# Altium footprint library C655_Main_Board_EK.PcbLib: 44 footprints (part 2 of 3)
Each footprint in its own frame and in the unit in brackets; x right, y up, seen from the top. Pads: shape width x height; smd on the part's side, far side on the other; paste and mask are expansions set on the pad; w line width, h text height; cw(c..) or ccw(c..) is an arc to the next point about the centre after c.
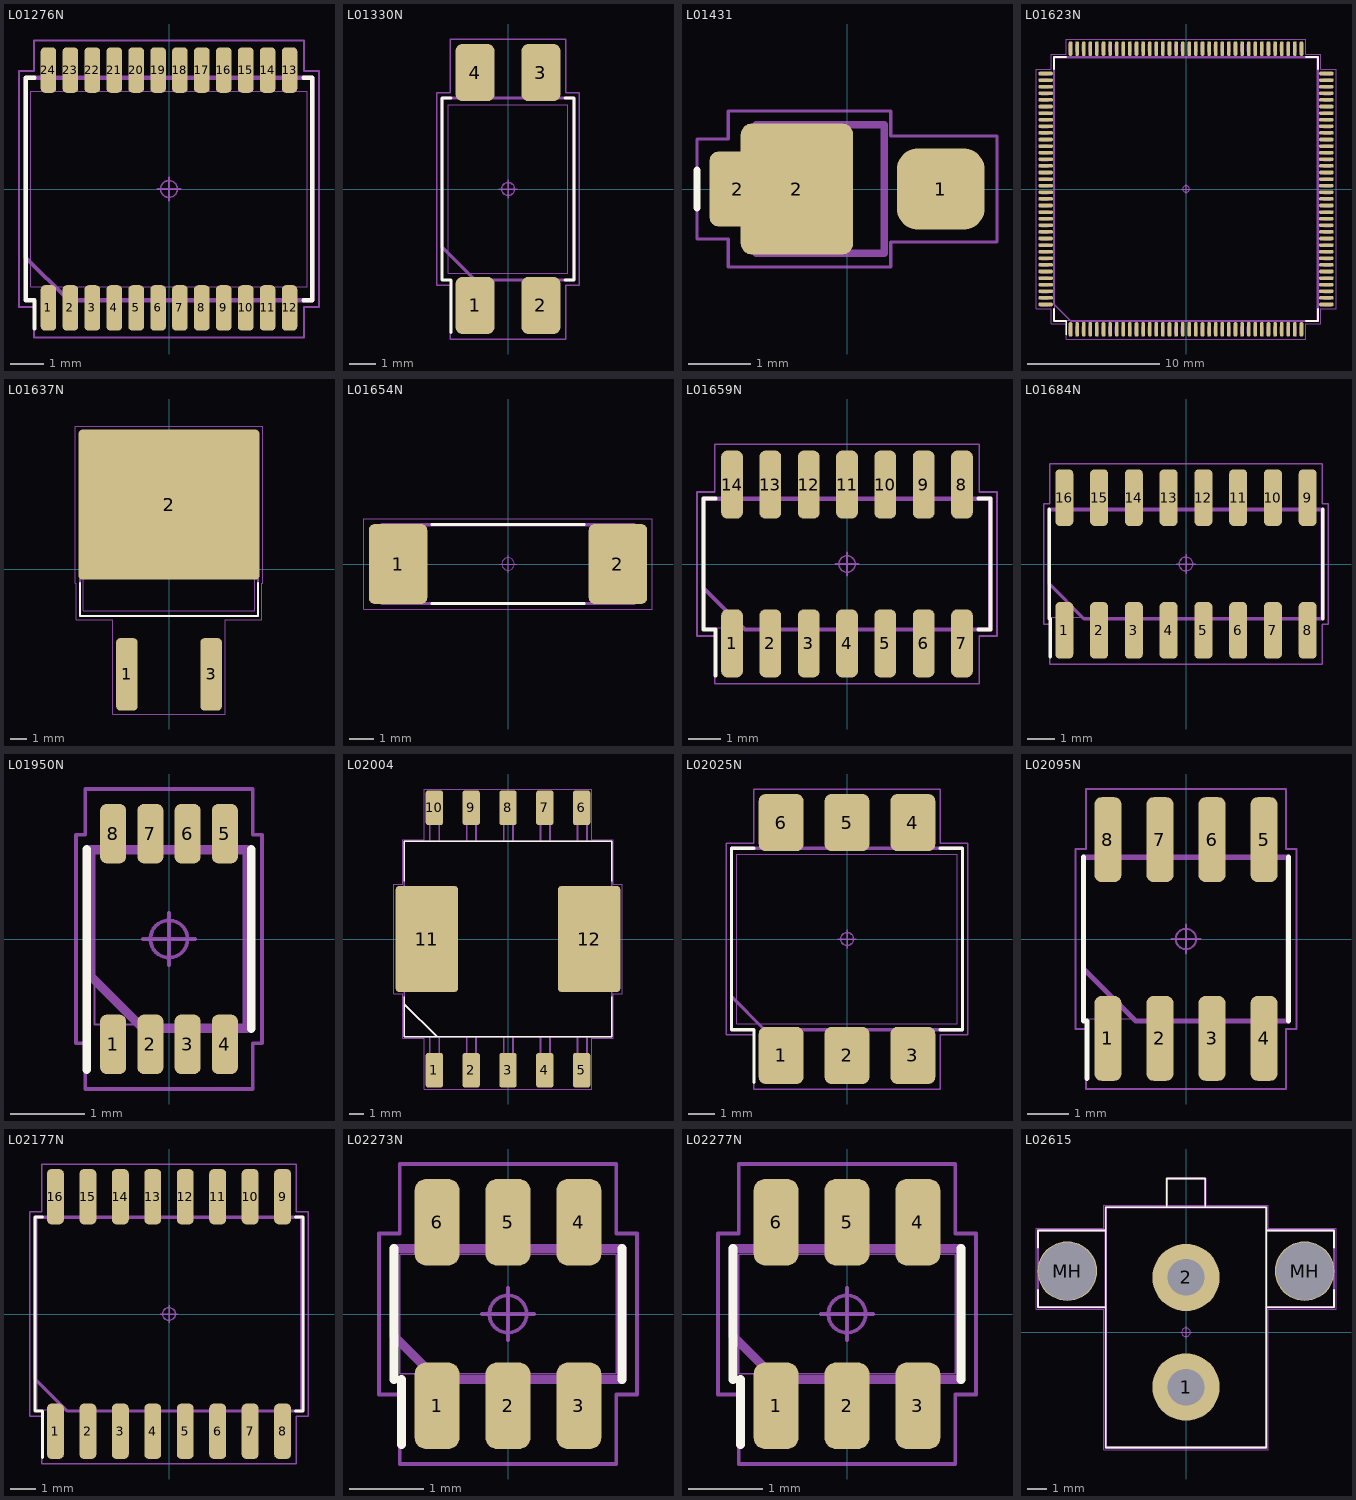
[diagram p1: the footprints below, top view; thin cyan lines are the x and y axes]

## L01276N [mm] "SOP24P65_820X780X200L75X30N"
height 2
pads (24):
  rrect52% 0.46x1.35 smd: 1(-3.575,-3.53) 2(-2.925,-3.53) 3(-2.275,-3.53) 4(-1.625,-3.53) 5(-0.975,-3.53) 6(-0.325,-3.53) 7(0.325,-3.53) 8(0.975,-3.53) 9(1.625,-3.53) 10(2.275,-3.53) 11(2.925,-3.53) 12(3.575,-3.53) 13(3.575,3.53) 14(2.925,3.53) 15(2.275,3.53) 16(1.625,3.53) 17(0.975,3.53) 18(0.325,3.53) 19(-0.325,3.53) 20(-0.975,3.53) 21(-1.625,3.53) 22(-2.275,3.53) 23(-2.925,3.53) 24(-3.575,3.53)
Top Overlay:
  lines w0.12: -3.985,-4.145 -3.985,-3.3 -4.25,-3.3 -4.25,3.3 -3.985,3.3 ; 3.985,-3.3 4.25,-3.3 4.25,3.3 3.985,3.3
Top Assembly:
  lines w0.12: -4.25,-2.03 -2.98,-3.3 4.25,-3.3 4.25,3.3 -4.25,3.3 -4.25,-2.03
  text ".Designator" at -3.429,-0.635 h1.5
Top Courtyard:
  circle w0.05: c0,0 r0.25
  lines w0.05: -0.35,0 0.35,0 ; 0,-0.35 0,0.35 ; -4.45,-3.5 -4.45,3.5 -4.005,3.5 -4.005,4.405 4.005,4.405 4.005,3.5 4.45,3.5 4.45,-3.5 4.005,-3.5 4.005,-4.405 -4.005,-4.405 -4.005,-3.5 -4.45,-3.5
Mechanical 31:
  lines w0.025: -4.1,-2.9 -4.1,2.9 4.1,2.9 4.1,-2.9 -4.1,-2.9 ; -3.725,-3.9 -3.425,-3.9 -3.425,-3.15 -3.725,-3.15 -3.725,-3.9 ; -3.725,3.15 -3.425,3.15 -3.425,3.9 -3.725,3.9 -3.725,3.15 ; -3.075,-3.9 -2.775,-3.9 -2.775,-3.15 -3.075,-3.15 -3.075,-3.9 ; -3.075,3.15 -2.775,3.15 -2.775,3.9 -3.075,3.9 -3.075,3.15 ; -2.425,-3.9 -2.125,-3.9 -2.125,-3.15 -2.425,-3.15 -2.425,-3.9 ; -2.425,3.15 -2.125,3.15 -2.125,3.9 -2.425,3.9 -2.425,3.15 ; -1.775,-3.9 -1.475,-3.9 -1.475,-3.15 -1.775,-3.15 -1.775,-3.9 ; -1.775,3.15 -1.475,3.15 -1.475,3.9 -1.775,3.9 -1.775,3.15 ; -1.125,-3.9 -0.825,-3.9 -0.825,-3.15 -1.125,-3.15 -1.125,-3.9 ; -1.125,3.15 -0.825,3.15 -0.825,3.9 -1.125,3.9 -1.125,3.15 ; -0.475,-3.9 -0.175,-3.9 -0.175,-3.15 -0.475,-3.15 -0.475,-3.9 ; -0.475,3.15 -0.175,3.15 -0.175,3.9 -0.475,3.9 -0.475,3.15 ; 0.175,-3.9 0.475,-3.9 0.475,-3.15 0.175,-3.15 0.175,-3.9 ; 0.175,3.15 0.475,3.15 0.475,3.9 0.175,3.9 0.175,3.15 ; 0.825,-3.9 1.125,-3.9 1.125,-3.15 0.825,-3.15 0.825,-3.9 ; 0.825,3.15 1.125,3.15 1.125,3.9 0.825,3.9 0.825,3.15 ; 1.475,-3.9 1.775,-3.9 1.775,-3.15 1.475,-3.15 1.475,-3.9 ; 1.475,3.15 1.775,3.15 1.775,3.9 1.475,3.9 1.475,3.15 ; 2.125,-3.9 2.425,-3.9 2.425,-3.15 2.125,-3.15 2.125,-3.9 ; 2.125,3.15 2.425,3.15 2.425,3.9 2.125,3.9 2.125,3.15 ; 2.775,-3.9 3.075,-3.9 3.075,-3.15 2.775,-3.15 2.775,-3.9 ; 2.775,3.15 3.075,3.15 3.075,3.9 2.775,3.9 2.775,3.15 ; 3.425,-3.9 3.725,-3.9 3.725,-3.15 3.425,-3.15 3.425,-3.9 ; 3.425,3.15 3.725,3.15 3.725,3.9 3.425,3.9 3.425,3.15
3D body "SOP24P65_820X780X200L75X30.STEP": height 2, standoff 0, extent -4.25,-3.9 4.25,3.9

## L01330N [mm] "SOIC4P254_460X1015X460L100X125N"
height 4.6
pads (4):
  rrect33% 1.5x2.19 smd: 1(-1.27,-4.485) 2(1.27,-4.485) 3(1.27,4.485) 4(-1.27,4.485)
Top Overlay:
  lines w0.12: -2.2,-5.52 -2.2,-3.5 -2.55,-3.5 -2.55,3.5 -2.2,3.5 ; 2.2,-3.5 2.55,-3.5 2.55,3.5 2.2,3.5
Top Assembly:
  lines w0.12: -2.55,-2.23 -1.28,-3.5 2.55,-3.5 2.55,3.5 -2.55,3.5 -2.55,-2.23
  text ".Designator" at -2.6,-0.5 h1.2
Top Courtyard:
  circle w0.05: c0,0 r0.25
  lines w0.05: -0.35,0 0.35,0 ; 0,-0.35 0,0.35 ; -2.75,-3.7 -2.75,3.7 -2.22,3.7 -2.22,5.78 2.22,5.78 2.22,3.7 2.75,3.7 2.75,-3.7 2.22,-3.7 2.22,-5.78 -2.22,-5.78 -2.22,-3.7 -2.75,-3.7
Mechanical 31:
  lines w0.025: -2.3,-3.25 -2.3,3.25 2.3,3.25 2.3,-3.25 -2.3,-3.25 ; -1.895,-5.075 -0.645,-5.075 -0.645,-4.075 -1.895,-4.075 -1.895,-5.075 ; -1.895,4.075 -0.645,4.075 -0.645,5.075 -1.895,5.075 -1.895,4.075 ; 0.645,-5.075 1.895,-5.075 1.895,-4.075 0.645,-4.075 0.645,-5.075 ; 0.645,4.075 1.895,4.075 1.895,5.075 0.645,5.075 0.645,4.075
3D body "SOIC4P254_460X1015X460L100X125.STEP": height 4.6, standoff 0, extent -2.55,-5.225 2.55,5.225

## L01431 [mm] "Didoe DO216-AA"
height 1.2
pads (3):
  rrect51% 1.4x1.3 smd: 1(1.5,0)
  rrect33% 0.9x1.2 smd: 2(-1.75,0)
  rrect20% 1.8x2.1 smd: 2(-0.8,0)
Top Overlay:
  lines w0.12: -2.4,-0.3 -2.4,0.3
Top Assembly:
  lines w0.12: -1.1,-1.025 -1.1,1.025 ; -0.975,-1.025 -0.975,1.025 ; -1.45,-1.025 -1.45,1.025 0.6,1.025 0.6,-1.025 -1.45,-1.025
  text ".Designator" at -1.5,-0.3 h0.6
Top Courtyard:
  lines w0.05: -2.4,-0.8 -1.9,-0.8 -1.9,-1.25 0.7,-1.25 0.7,-0.85 2.4,-0.85 2.4,0.85 0.7,0.85 0.7,1.25 -1.9,1.25 -1.9,0.8 -2.4,0.8 -2.4,-0.8
3D body "User Library-DO-216AA.STEP": height 1.01, standoff 0, extent -1.925,-1 1.925,1

## L01623N [mm] "Quad Flat Pack (QFP), 0.50 mm pitch; square, 36 pin X 36 pin, 19.90 mm L X 19.90 mm W X 1.60 mm H body"
height 1.6
pads (144):
  rrect52% 0.27x1.07 smd: 1(-8.75,-10.63) 2(-8.25,-10.63) 3(-7.75,-10.63) 4(-7.25,-10.63) 5(-6.75,-10.63) 6(-6.25,-10.63) 7(-5.75,-10.63) 8(-5.25,-10.63) 9(-4.75,-10.63) 10(-4.25,-10.63) 11(-3.75,-10.63) 12(-3.25,-10.63) 13(-2.75,-10.63) 14(-2.25,-10.63) 15(-1.75,-10.63) 16(-1.25,-10.63) 17(-0.75,-10.63) 18(-0.25,-10.63) 19(0.25,-10.63) 20(0.75,-10.63) 21(1.25,-10.63) 22(1.75,-10.63) 23(2.25,-10.63) 24(2.75,-10.63) 25(3.25,-10.63) 26(3.75,-10.63) 27(4.25,-10.63) 28(4.75,-10.63) 29(5.25,-10.63) 30(5.75,-10.63) 31(6.25,-10.63) 32(6.75,-10.63) 33(7.25,-10.63) 34(7.75,-10.63) 35(8.25,-10.63) 36(8.75,-10.63) 73(8.75,10.63) 74(8.25,10.63) 75(7.75,10.63) 76(7.25,10.63) 77(6.75,10.63) 78(6.25,10.63) 79(5.75,10.63) 80(5.25,10.63) 81(4.75,10.63) 82(4.25,10.63) 83(3.75,10.63) 84(3.25,10.63) 85(2.75,10.63) 86(2.25,10.63) 87(1.75,10.63) 88(1.25,10.63) 89(0.75,10.63) 90(0.25,10.63) 91(-0.25,10.63) 92(-0.75,10.63) 93(-1.25,10.63) 94(-1.75,10.63) 95(-2.25,10.63) 96(-2.75,10.63) 97(-3.25,10.63) 98(-3.75,10.63) 99(-4.25,10.63) 100(-4.75,10.63) 101(-5.25,10.63) 102(-5.75,10.63) 103(-6.25,10.63) 104(-6.75,10.63) 105(-7.25,10.63) 106(-7.75,10.63) 107(-8.25,10.63) 108(-8.75,10.63)
  rrect52% 1.07x0.27 smd: 37(10.63,-8.75) 38(10.63,-8.25) 39(10.63,-7.75) 40(10.63,-7.25) 41(10.63,-6.75) 42(10.63,-6.25) 43(10.63,-5.75) 44(10.63,-5.25) 45(10.63,-4.75) 46(10.63,-4.25) 47(10.63,-3.75) 48(10.63,-3.25) 49(10.63,-2.75) 50(10.63,-2.25) 51(10.63,-1.75) 52(10.63,-1.25) 53(10.63,-0.75) 54(10.63,-0.25) 55(10.63,0.25) 56(10.63,0.75) 57(10.63,1.25) 58(10.63,1.75) 59(10.63,2.25) 60(10.63,2.75) 61(10.63,3.25) 62(10.63,3.75) 63(10.63,4.25) 64(10.63,4.75) 65(10.63,5.25) 66(10.63,5.75) 67(10.63,6.25) 68(10.63,6.75) 69(10.63,7.25) 70(10.63,7.75) 71(10.63,8.25) 72(10.63,8.75) 109(-10.63,8.75) 110(-10.63,8.25) 111(-10.63,7.75) 112(-10.63,7.25) 113(-10.63,6.75) 114(-10.63,6.25) 115(-10.63,5.75) 116(-10.63,5.25) 117(-10.63,4.75) 118(-10.63,4.25) 119(-10.63,3.75) 120(-10.63,3.25) 121(-10.63,2.75) 122(-10.63,2.25) 123(-10.63,1.75) 124(-10.63,1.25) 125(-10.63,0.75) 126(-10.63,0.25) 127(-10.63,-0.25) 128(-10.63,-0.75) 129(-10.63,-1.25) 130(-10.63,-1.75) 131(-10.63,-2.25) 132(-10.63,-2.75) 133(-10.63,-3.25) 134(-10.63,-3.75) 135(-10.63,-4.25) 136(-10.63,-4.75) 137(-10.63,-5.25) 138(-10.63,-5.75) 139(-10.63,-6.25) 140(-10.63,-6.75) 141(-10.63,-7.25) 142(-10.63,-7.75) 143(-10.63,-8.25) 144(-10.63,-8.75)
Top Overlay:
  lines w0.12: -10,-9.07 -10,-10 -9.07,-10 -9.07,-11.045 ; -10,9.07 -10,10 -9.07,10 ; 9.07,-10 10,-10 10,-9.07 ; 9.07,10 10,10 10,9.07
Top Assembly:
  lines w0.12: -10,-8.725 -10,10 10,10 10,-10 -8.725,-10 -9.995,-8.73
  text ".Designator" at -2.667,-0.508 h1.2
Top Courtyard:
  circle w0.05: c0,0 r0.25
  lines w0.05: -0.35,0 0.35,0 ; 0,-0.35 0,0.35 ; -11.365,-9.085 -11.365,9.085 -10.2,9.085 -10.2,10.2 -9.085,10.2 -9.085,11.365 9.085,11.365 9.085,10.2 10.2,10.2 10.2,9.085 11.365,9.085 11.365,-9.085 10.2,-9.085 10.2,-10.2 9.085,-10.2 9.085,-11.365 -9.085,-11.365 -9.085,-10.2 -10.2,-10.2 -10.2,-9.085 -11.365,-9.085
Mechanical 31:
  drawing of 580 lines, arcs and shapes, not listed
3D body "QFP144P50_2190X2190X160L52X19.STEP": height 1.6, standoff 0, extent -10.95,-10.95 10.95,10.95

## L01637N [mm] "DPAK3P500_1525X460L260X75T790X1060N"
height 4.6
pads (3):
  rrect39% 1.28x4.31 smd: 1(-2.5,-6.25) 3(2.5,-6.25)
  rrect6% 10.77x8.93 smd paste-10.77: 2(0,3.84)
Top Overlay:
  lines w0.12: -5.3,-0.805 -5.3,-2.785 5.3,-2.785 5.3,-0.805
Top Paste:
  region: 5.16,-0.265 3.84,-0.265 3.84,1.255 5.16,1.255
  region: 5.16,1.965 3.84,1.965 3.84,3.485 5.16,3.485
  region: 5.16,4.195 3.84,4.195 3.84,5.715 5.16,5.715
  region: 5.16,6.425 3.84,6.425 3.84,7.945 5.16,7.945
  region: 3.36,-0.265 2.04,-0.265 2.04,1.255 3.36,1.255
  region: 3.36,1.965 2.04,1.965 2.04,3.485 3.36,3.485
  region: 3.36,4.195 2.04,4.195 2.04,5.715 3.36,5.715
  region: 3.36,6.425 2.04,6.425 2.04,7.945 3.36,7.945
  region: 1.56,-0.265 0.24,-0.265 0.24,1.255 1.56,1.255
  region: 1.56,1.965 0.24,1.965 0.24,3.485 1.56,3.485
  region: 1.56,4.195 0.24,4.195 0.24,5.715 1.56,5.715
  region: 1.56,6.425 0.24,6.425 0.24,7.945 1.56,7.945
  region: -0.24,-0.265 -1.56,-0.265 -1.56,1.255 -0.24,1.255
  region: -0.24,1.965 -1.56,1.965 -1.56,3.485 -0.24,3.485
  region: -0.24,4.195 -1.56,4.195 -1.56,5.715 -0.24,5.715
  region: -0.24,6.425 -1.56,6.425 -1.56,7.945 -0.24,7.945
  region: -2.04,-0.265 -3.36,-0.265 -3.36,1.255 -2.04,1.255
  region: -2.04,1.965 -3.36,1.965 -3.36,3.485 -2.04,3.485
  region: -2.04,4.195 -3.36,4.195 -3.36,5.715 -2.04,5.715
  region: -2.04,6.425 -3.36,6.425 -3.36,7.945 -2.04,7.945
  region: -3.84,-0.265 -5.16,-0.265 -5.16,1.255 -3.84,1.255
  region: -3.84,1.965 -5.16,1.965 -5.16,3.485 -3.84,3.485
  region: -3.84,4.195 -5.16,4.195 -5.16,5.715 -3.84,5.715
  region: -3.84,6.425 -5.16,6.425 -5.16,7.945 -3.84,7.945
Top Assembly:
  lines w0.12: -5.3,-2.785 5.3,-2.785 5.3,6.915 -5.3,6.915 -5.3,-2.785
  text ".Designator" at -2.667,2.54 h1.2
Top Courtyard:
  circle w0.05: c0,0 r0.25
  lines w0.05: -0.35,0 0.35,0 ; 0,-0.35 0,0.35 ; -5.585,-0.825 -5.585,8.505 5.585,8.505 5.585,-0.825 5.5,-0.825 5.5,-2.99 3.34,-2.99 3.34,-8.605 -3.34,-8.605 -3.34,-2.99 -5.5,-2.99 -5.5,-0.825 -5.585,-0.825
Mechanical 31:
  lines w0.025: -5.3,-0.275 5.3,-0.275 5.3,7.625 -5.3,7.625 -5.3,-0.275 ; -5.1,-2.46 -5.1,6.59 5.1,6.59 5.1,-2.46 -5.1,-2.46 ; -2.875,-7.625 -2.125,-7.625 -2.125,-5.025 -2.875,-5.025 -2.875,-7.625 ; 2.125,-7.625 2.875,-7.625 2.875,-5.025 2.125,-5.025 2.125,-7.625
3D body "DPAK3P500_1525X460L260X75T790X1060.STEP": height 4.6, standoff 0, extent -5.3,-7.95 5.3,7.95

## L01654N [mm] "FUSC1010X310X320L170N"
height 3.2
pads (2):
  rrect21% 2.36x3.23 smd: 1(-4.435,0) 2(4.435,0)
Top Overlay:
  lines w0.12: -3.075,-1.6 3.075,-1.6 ; -3.075,1.6 3.075,1.6
Top Assembly:
  lines w0.12: -5.1,-1.6 -5.1,1.6 5.1,1.6 5.1,-1.6 -5.1,-1.6
  text ".Designator" at -3.3,-0.6 h1.5
Top Courtyard:
  circle w0.05: c0,0 r0.25
  lines w0.05: -0.35,0 0.35,0 ; 0,-0.35 0,0.35 ; -5.82,-1.82 -5.82,1.82 5.82,1.82 5.82,-1.82 -5.82,-1.82
Mechanical 31:
  lines w0.025: -5.05,-1.55 -3.35,-1.55 -3.35,1.55 -5.05,1.55 ; -5.05,-1.55 -5.05,1.55 ; -5.05,-1.55 -5.05,1.55 ; -5.05,-1.55 5.05,-1.55 ; -5.05,1.55 5.05,1.55 ; 5.05,-1.55 5.05,1.55 ; 5.05,-1.55 3.35,-1.55 3.35,1.55 5.05,1.55 ; 5.05,-1.55 5.05,1.55
3D body "FUSC1010X310X320L170.STEP": height 3.2, standoff 0, extent -5.1,-1.6 5.1,1.6

## L01659N [mm] "SOIC14P117_865X600X180L83X41N"
height 1.8
pads (14):
  rrect52% 0.66x2.07 smd: 1(-3.51,-2.425) 2(-2.34,-2.425) 3(-1.17,-2.425) 4(0,-2.425) 5(1.17,-2.425) 6(2.34,-2.425) 7(3.51,-2.425) 8(3.51,2.425) 9(2.34,2.425) 10(1.17,2.425) 11(0,2.425) 12(-1.17,2.425) 13(-2.34,2.425) 14(-3.51,2.425)
Top Overlay:
  lines w0.12: -4.02,-3.4 -4.02,-2 -4.38,-2 -4.38,2 -4.02,2 ; 4.02,-2 4.38,-2 4.38,2 4.02,2
Top Assembly:
  lines w0.12: -4.38,-0.73 -4.38,2 4.38,2 4.38,-2 -3.11,-2 -4.38,-0.73
  text ".Designator" at -3.4,-0.6 h1.5
Top Courtyard:
  circle w0.05: c0,0 r0.25
  lines w0.05: -0.35,0 0.35,0 ; 0,-0.35 0,0.35 ; -4.58,-2.2 -4.04,-2.2 -4.04,-3.66 4.04,-3.66 4.04,-2.2 4.58,-2.2 4.58,2.2 4.04,2.2 4.04,3.66 -4.04,3.66 -4.04,2.2 -4.58,2.2 -4.58,-2.2
Mechanical 31:
  lines w0.025: -4.325,-1.95 4.325,-1.95 4.325,1.95 -4.325,1.95 -4.325,-1.95 ; -3.715,-3 -3.715,-2.165 -3.305,-2.165 -3.305,-3 -3.715,-3 ; -3.715,2.165 -3.715,3 -3.305,3 -3.305,2.165 -3.715,2.165 ; -2.545,-3 -2.545,-2.165 -2.135,-2.165 -2.135,-3 -2.545,-3 ; -2.545,2.165 -2.545,3 -2.135,3 -2.135,2.165 -2.545,2.165 ; -1.375,-3 -1.375,-2.165 -0.965,-2.165 -0.965,-3 -1.375,-3 ; -1.375,2.165 -1.375,3 -0.965,3 -0.965,2.165 -1.375,2.165 ; -0.205,-3 -0.205,-2.165 0.205,-2.165 0.205,-3 -0.205,-3 ; -0.205,2.165 -0.205,3 0.205,3 0.205,2.165 -0.205,2.165 ; 0.965,-3 0.965,-2.165 1.375,-2.165 1.375,-3 0.965,-3 ; 0.965,2.165 0.965,3 1.375,3 1.375,2.165 0.965,2.165 ; 2.135,-3 2.135,-2.165 2.545,-2.165 2.545,-3 2.135,-3 ; 2.135,2.165 2.135,3 2.545,3 2.545,2.165 2.135,2.165 ; 3.305,-3 3.305,-2.165 3.715,-2.165 3.715,-3 3.305,-3 ; 3.305,2.165 3.305,3 3.715,3 3.715,2.165 3.305,2.165
3D body "SOIC14P117_865X600X180L83X41.STEP": height 1.8, standoff 0, extent -4.375,-3.1 4.375,3.1

## L01684N [mm] "SOIC16P127_990X600X180L83X41N"
height 1.8
pads (16):
  rrect52% 0.66x2.07 smd: 1(-4.445,-2.425) 2(-3.175,-2.425) 3(-1.905,-2.425) 4(-0.635,-2.425) 5(0.635,-2.425) 6(1.905,-2.425) 7(3.175,-2.425) 8(4.445,-2.425) 9(4.445,2.425) 10(3.175,2.425) 11(1.905,2.425) 12(0.635,2.425) 13(-0.635,2.425) 14(-1.905,2.425) 15(-3.175,2.425) 16(-4.445,2.425)
Top Overlay:
  lines w0.12: -5,-2 -5,2 ; -4.955,-3.4 -4.955,-2 ; 5,-2 5,2
Top Assembly:
  lines w0.12: -5,-0.73 -3.73,-2 5,-2 5,2 -5,2 -5,-0.73
  text ".Designator" at -3.3,-0.6 h1.5
Top Courtyard:
  circle w0.05: c0,0 r0.25
  lines w0.05: -0.35,0 0.35,0 ; 0,-0.35 0,0.35 ; -5.2,-2.2 -5.2,2.2 -4.975,2.2 -4.975,3.66 4.975,3.66 4.975,2.2 5.2,2.2 5.2,-2.2 4.975,-2.2 4.975,-3.66 -4.975,-3.66 -4.975,-2.2 -5.2,-2.2
Mechanical 31:
  lines w0.025: -4.95,-1.95 -4.95,1.95 4.95,1.95 4.95,-1.95 -4.95,-1.95 ; -4.65,-3 -4.24,-3 -4.24,-2.165 -4.65,-2.165 -4.65,-3 ; -4.65,2.165 -4.24,2.165 -4.24,3 -4.65,3 -4.65,2.165 ; -3.38,-3 -2.97,-3 -2.97,-2.165 -3.38,-2.165 -3.38,-3 ; -3.38,2.165 -2.97,2.165 -2.97,3 -3.38,3 -3.38,2.165 ; -2.11,-3 -1.7,-3 -1.7,-2.165 -2.11,-2.165 -2.11,-3 ; -2.11,2.165 -1.7,2.165 -1.7,3 -2.11,3 -2.11,2.165 ; -0.84,-3 -0.43,-3 -0.43,-2.165 -0.84,-2.165 -0.84,-3 ; -0.84,2.165 -0.43,2.165 -0.43,3 -0.84,3 -0.84,2.165 ; 0.43,-3 0.84,-3 0.84,-2.165 0.43,-2.165 0.43,-3 ; 0.43,2.165 0.84,2.165 0.84,3 0.43,3 0.43,2.165 ; 1.7,-3 2.11,-3 2.11,-2.165 1.7,-2.165 1.7,-3 ; 1.7,2.165 2.11,2.165 2.11,3 1.7,3 1.7,2.165 ; 2.97,-3 3.38,-3 3.38,-2.165 2.97,-2.165 2.97,-3 ; 2.97,2.165 3.38,2.165 3.38,3 2.97,3 2.97,2.165 ; 4.24,-3 4.65,-3 4.65,-2.165 4.24,-2.165 4.24,-3 ; 4.24,2.165 4.65,2.165 4.65,3 4.24,3 4.24,2.165
3D body "SOIC16P127_990X600X180L83X41.STEP": height 1.8, standoff 0, extent -5,-3.1 5,3.1

## L01950N [mm] "SOP8P50_200X310X90L27X25N"
height 0.9
pads (8):
  rrect51% 0.35x0.8 smd: 1(-0.75,-1.415) 2(-0.25,-1.415) 3(0.25,-1.415) 4(0.75,-1.415) 5(0.75,1.415) 6(0.25,1.415) 7(-0.25,1.415) 8(-0.75,1.415)
Top Overlay:
  lines w0.12: -1.105,-1.755 -1.105,-1.2 -1.105,1.2 ; 1.105,-1.2 1.105,1.2
Top Assembly:
  lines w0.12: -1.05,-0.5 -1.05,1.2 1.05,1.2 1.05,-1.2 -0.35,-1.2 -1.05,-0.5
  text ".Designator" at 0.6,-1.8 h0.8
Top Courtyard:
  circle w0.05: c0,0 r0.25
  lines w0.05: -0.35,0 0.35,0 ; 0,-0.35 0,0.35 ; -1.25,-1.4 -1.125,-1.4 -1.125,-2.015 1.125,-2.015 1.125,-1.4 1.25,-1.4 1.25,1.4 1.125,1.4 1.125,2.015 -1.125,2.015 -1.125,1.4 -1.25,1.4 -1.25,-1.4
Mechanical 31:
  lines w0.025: -1,-1.15 1,-1.15 1,1.15 -1,1.15 -1,-1.15 ; -0.875,-1.55 -0.875,-1.275 -0.625,-1.275 -0.625,-1.55 -0.875,-1.55 ; -0.875,1.275 -0.875,1.55 -0.625,1.55 -0.625,1.275 -0.875,1.275 ; -0.375,-1.55 -0.375,-1.275 -0.125,-1.275 -0.125,-1.55 -0.375,-1.55 ; -0.375,1.275 -0.375,1.55 -0.125,1.55 -0.125,1.275 -0.375,1.275 ; 0.125,-1.55 0.125,-1.275 0.375,-1.275 0.375,-1.55 0.125,-1.55 ; 0.125,1.275 0.125,1.55 0.375,1.55 0.375,1.275 0.125,1.275 ; 0.625,-1.55 0.625,-1.275 0.875,-1.275 0.875,-1.55 0.625,-1.55 ; 0.625,1.275 0.625,1.55 0.875,1.55 0.875,1.275 0.625,1.275
3D body "SOP8P50_200X310X90L27X25.STEP": height 0.9, standoff 0, extent -1.05,-1.6 1.05,1.6

## L02004 [mm]
height 10
pads (12):
  rrect30% 1.2x2.4 smd: 1(-5.08,-9.05) 2(-2.54,-9.05) 3(0,-9.05) 4(2.54,-9.05) 5(5.08,-9.05) 6(5.08,9.05) 7(2.54,9.05) 8(0,9.05) 9(-2.54,9.05) 10(-5.08,9.05)
  rrect10% 4.3x7.3 smd: 11(-5.6,0) 12(5.6,0)
Top Overlay:
  lines w0.1: -7.15,-4.5 -4.925,-6.725 ; -7.15,-4 -7.15,-6.75 7.15,-6.75 7.15,-4 ; -7.15,4 -7.15,6.75 7.15,6.75 7.15,4
Top Assembly:
  lines w0.12: -7.15,-4.5 -4.925,-6.725 ; -5.4,-6.75 -5.4,-9.95 -4.75,-9.95 -4.75,-6.75 ; -5.4,6.75 -5.4,9.95 -4.75,9.95 -4.75,6.75 ; -2.85,-6.75 -2.85,-9.95 -2.2,-9.95 -2.2,-6.75 ; -2.85,6.75 -2.85,9.95 -2.2,9.95 -2.2,6.75 ; -0.3,-6.75 -0.3,-9.95 0.35,-9.95 0.35,-6.75 ; -0.3,6.75 -0.3,9.95 0.35,9.95 0.35,6.75 ; 2.25,-6.75 2.25,-9.95 2.9,-9.95 2.9,-6.75 ; 2.25,6.75 2.25,9.95 2.9,9.95 2.9,6.75 ; 4.8,-6.75 4.8,-9.95 5.45,-9.95 5.45,-6.75 ; 4.8,6.75 4.8,9.95 5.45,9.95 5.45,6.75 ; -7.15,-6.75 -7.15,6.75 7.15,6.75 7.15,-6.75 -7.15,-6.75
  text ".Designator" at -3.4,-0.6 h1.5
Top Courtyard:
  lines w0.05: -7.875,-3.775 -7.875,3.775 -7.25,3.775 -7.25,6.85 -5.775,6.85 -5.775,10.35 5.775,10.35 5.775,6.85 7.25,6.85 7.25,3.775 7.875,3.775 7.875,-3.775 7.25,-3.775 7.25,-6.85 5.775,-6.85 5.775,-10.35 -5.775,-10.35 -5.775,-6.85 -7.25,-6.85 -7.25,-3.775 -7.875,-3.775
3D body "21_Epcos.STEP": height 10, standoff 0, extent -7.25,-9.95 7.25,9.95

## L02025N [mm] "SOIC6P254_850X1016X510L100X130N"
height 5.1
pads (6):
  rrect29% 1.73x2.19 smd: 1(-2.54,-4.49) 2(0,-4.49) 3(2.54,-4.49) 4(2.54,4.49) 5(0,4.49) 6(-2.54,4.49)
Top Overlay:
  lines w0.12: -3.585,-5.525 -3.585,-3.5 -4.45,-3.5 -4.45,3.5 -3.585,3.5 ; 3.585,-3.5 4.45,-3.5 4.45,3.5 3.585,3.5
Top Assembly:
  lines w0.12: -4.45,-2.23 -3.18,-3.5 4.45,-3.5 4.45,3.5 -4.45,3.5 -4.45,-2.23
  text ".Designator" at -2.6,-0.5 h1.2
Top Courtyard:
  circle w0.05: c0,0 r0.25
  lines w0.05: -0.35,0 0.35,0 ; 0,-0.35 0,0.35 ; -4.65,-3.7 -4.65,3.7 -3.605,3.7 -3.605,5.785 3.605,5.785 3.605,3.7 4.65,3.7 4.65,-3.7 3.605,-3.7 3.605,-5.785 -3.605,-5.785 -3.605,-3.7 -4.65,-3.7
Mechanical 31:
  lines w0.025: -4.25,-3.275 -4.25,3.275 4.25,3.275 4.25,-3.275 -4.25,-3.275 ; -3.19,-5.08 -1.89,-5.08 -1.89,-4.08 -3.19,-4.08 -3.19,-5.08 ; -3.19,4.08 -1.89,4.08 -1.89,5.08 -3.19,5.08 -3.19,4.08 ; -0.65,-5.08 0.65,-5.08 0.65,-4.08 -0.65,-4.08 -0.65,-5.08 ; -0.65,4.08 0.65,4.08 0.65,5.08 -0.65,5.08 -0.65,4.08 ; 1.89,-5.08 3.19,-5.08 3.19,-4.08 1.89,-4.08 1.89,-5.08 ; 1.89,4.08 3.19,4.08 3.19,5.08 1.89,5.08 1.89,4.08
3D body "SOIC6P254_850X1016X510L100X130.STEP": height 5.1, standoff 0, extent -4.45,-5.23 4.45,5.23

## L02095N [mm] "SOIC8P127_490X600X180L84X41N"
height 1.8
pads (8):
  rrect52% 0.66x2.07 smd: 1(-1.905,-2.425) 2(-0.635,-2.425) 3(0.635,-2.425) 4(1.905,-2.425) 5(1.905,2.425) 6(0.635,2.425) 7(-0.635,2.425) 8(-1.905,2.425)
Top Overlay:
  lines w0.12: -2.5,-2 -2.5,2 ; -2.415,-3.4 -2.415,-2 ; 2.5,-2 2.5,2
Top Assembly:
  lines w0.12: -2.5,-0.73 -1.23,-2 2.5,-2 2.5,2 -2.5,2 -2.5,-0.73
  text ".Designator" at -3.4,-0.6 h1.5
Top Courtyard:
  circle w0.05: c0,0 r0.25
  lines w0.05: -0.35,0 0.35,0 ; 0,-0.35 0,0.35 ; -2.7,-2.2 -2.7,2.2 -2.435,2.2 -2.435,3.66 2.435,3.66 2.435,2.2 2.7,2.2 2.7,-2.2 2.435,-2.2 2.435,-3.66 -2.435,-3.66 -2.435,-2.2 -2.7,-2.2
Mechanical 31:
  lines w0.025: -2.45,-1.95 -2.45,1.95 2.45,1.95 2.45,-1.95 -2.45,-1.95 ; -2.11,-3 -1.7,-3 -1.7,-2.16 -2.11,-2.16 -2.11,-3 ; -2.11,2.16 -1.7,2.16 -1.7,3 -2.11,3 -2.11,2.16 ; -0.84,-3 -0.43,-3 -0.43,-2.16 -0.84,-2.16 -0.84,-3 ; -0.84,2.16 -0.43,2.16 -0.43,3 -0.84,3 -0.84,2.16 ; 0.43,-3 0.84,-3 0.84,-2.16 0.43,-2.16 0.43,-3 ; 0.43,2.16 0.84,2.16 0.84,3 0.43,3 0.43,2.16 ; 1.7,-3 2.11,-3 2.11,-2.16 1.7,-2.16 1.7,-3 ; 1.7,2.16 2.11,2.16 2.11,3 1.7,3 1.7,2.16
3D body "SOIC8P127_490X600X180L84X41.STEP": height 1.8, standoff 0, extent -2.5,-3.1 2.5,3.1

## L02177N [mm] "Small Outline IC (SOIC), 1.27 mm pitch; 16 pin, 10.30 mm L X 7.50 mm W X 2.70 mm H body"
height 2.7
pads (16):
  rrect52% 0.66x2.16 smd: 1(-4.445,-4.59) 2(-3.175,-4.59) 3(-1.905,-4.59) 4(-0.635,-4.59) 5(0.635,-4.59) 6(1.905,-4.59) 7(3.175,-4.59) 8(4.445,-4.59) 9(4.445,4.59) 10(3.175,4.59) 11(1.905,4.59) 12(0.635,4.59) 13(-0.635,4.59) 14(-1.905,4.59) 15(-3.175,4.59) 16(-4.445,4.59)
Top Overlay:
  lines w0.12: -4.955,-5.61 -4.955,-3.8 -5.25,-3.8 -5.25,3.8 -4.955,3.8 ; 4.955,-3.8 5.25,-3.8 5.25,3.8 4.955,3.8
Top Assembly:
  lines w0.12: -5.25,-2.53 -5.25,3.8 5.25,3.8 5.25,-3.8 -3.98,-3.8 -5.25,-2.53
  text ".Designator" at -2.7,-0.525 h1.2
Top Courtyard:
  circle w0.05: c0,0 r0.25
  lines w0.05: -0.35,0 0.35,0 ; 0,-0.35 0,0.35 ; -5.45,-4 -4.975,-4 -4.975,-5.87 4.975,-5.87 4.975,-4 5.45,-4 5.45,4 4.975,4 4.975,5.87 -4.975,5.87 -4.975,4 -5.45,4 -5.45,-4
Mechanical 31:
  lines w0.025: -5.15,-3.75 5.15,-3.75 5.15,3.75 -5.15,3.75 -5.15,-3.75 ; -4.65,-5.15 -4.65,-4.315 -4.24,-4.315 -4.24,-5.15 -4.65,-5.15 ; -4.65,4.315 -4.65,5.15 -4.24,5.15 -4.24,4.315 -4.65,4.315 ; -3.38,-5.15 -3.38,-4.315 -2.97,-4.315 -2.97,-5.15 -3.38,-5.15 ; -3.38,4.315 -3.38,5.15 -2.97,5.15 -2.97,4.315 -3.38,4.315 ; -2.11,-5.15 -2.11,-4.315 -1.7,-4.315 -1.7,-5.15 -2.11,-5.15 ; -2.11,4.315 -2.11,5.15 -1.7,5.15 -1.7,4.315 -2.11,4.315 ; -0.84,-5.15 -0.84,-4.315 -0.43,-4.315 -0.43,-5.15 -0.84,-5.15 ; -0.84,4.315 -0.84,5.15 -0.43,5.15 -0.43,4.315 -0.84,4.315 ; 0.43,-5.15 0.43,-4.315 0.84,-4.315 0.84,-5.15 0.43,-5.15 ; 0.43,4.315 0.43,5.15 0.84,5.15 0.84,4.315 0.43,4.315 ; 1.7,-5.15 1.7,-4.315 2.11,-4.315 2.11,-5.15 1.7,-5.15 ; 1.7,4.315 1.7,5.15 2.11,5.15 2.11,4.315 1.7,4.315 ; 2.97,-5.15 2.97,-4.315 3.38,-4.315 3.38,-5.15 2.97,-5.15 ; 2.97,4.315 2.97,5.15 3.38,5.15 3.38,4.315 2.97,4.315 ; 4.24,-5.15 4.24,-4.315 4.65,-4.315 4.65,-5.15 4.24,-5.15 ; 4.24,4.315 4.24,5.15 4.65,5.15 4.65,4.315 4.24,4.315
3D body "SOIC16_Wide_JEDEC_MS-013AA.STEP": height 2.62, standoff -0.03, extent -5.25,-5.315 5.25,5.315

## L02273N [mm] "SOT23-6P95_280X110L45X37N"
height 1.1
pads (6):
  rrect50% 0.6x1.16 smd: 1(-0.95,-1.23) 2(0,-1.23) 3(0.95,-1.23) 4(0.95,1.23) 5(0,1.23) 6(-0.95,1.23)
Top Overlay:
  lines w0.12: -1.53,-0.88 -1.53,0.88 ; -1.43,-1.75 -1.43,-0.88 ; 1.53,-0.88 1.53,0.88
Top Assembly:
  lines w0.12: -1.53,-0.293 -1.53,0.88 1.53,0.88 1.53,-0.88 -0.943,-0.88 -1.53,-0.293
  text ".Designator" at -2.7,-0.4 h1.2
Top Courtyard:
  circle w0.05: c0,0 r0.25
  lines w0.05: -0.35,0 0.35,0 ; 0,-0.35 0,0.35 ; -1.73,-1.08 -1.45,-1.08 -1.45,-2.01 1.45,-2.01 1.45,-1.08 1.73,-1.08 1.73,1.08 1.45,1.08 1.45,2.01 -1.45,2.01 -1.45,1.08 -1.73,1.08 -1.73,-1.08
Mechanical 31:
  lines w0.025: -1.45,-0.8 1.45,-0.8 1.45,0.8 -1.45,0.8 -1.45,-0.8 ; -1.138,-1.4 -1.138,-0.95 -0.763,-0.95 -0.763,-1.4 -1.138,-1.4 ; -1.138,0.95 -1.138,1.4 -0.763,1.4 -0.763,0.95 -1.138,0.95 ; -0.188,-1.4 -0.188,-0.95 0.188,-0.95 0.188,-1.4 -0.188,-1.4 ; -0.188,0.95 -0.188,1.4 0.188,1.4 0.188,0.95 -0.188,0.95 ; 0.763,-1.4 0.763,-0.95 1.138,-0.95 1.138,-1.4 0.763,-1.4 ; 0.763,0.95 0.763,1.4 1.138,1.4 1.138,0.95 0.763,0.95
3D body "SOT23-6P95_280X110L45X37.STEP": height 1.1, standoff 0, extent -1.525,-1.5 1.525,1.5

## L02277N [mm] "SOP6P95_290X280X150L45X37N"
height 1.5
pads (6):
  rrect50% 0.6x1.16 smd: 1(-0.95,-1.23) 2(0,-1.23) 3(0.95,-1.23) 4(0.95,1.23) 5(0,1.23) 6(-0.95,1.23)
Top Overlay:
  lines w0.12: -1.53,-0.88 -1.53,0.88 ; -1.43,-1.75 -1.43,-0.88 ; 1.53,-0.88 1.53,0.88
Top Assembly:
  lines w0.12: -1.53,-0.293 -1.53,0.88 1.53,0.88 1.53,-0.88 -0.943,-0.88 -1.53,-0.293
  text ".Designator" at -1.8,-0.1 h0.8
Top Courtyard:
  circle w0.05: c0,0 r0.25
  lines w0.05: -0.35,0 0.35,0 ; 0,-0.35 0,0.35 ; -1.73,-1.08 -1.45,-1.08 -1.45,-2.01 1.45,-2.01 1.45,-1.08 1.73,-1.08 1.73,1.08 1.45,1.08 1.45,2.01 -1.45,2.01 -1.45,1.08 -1.73,1.08 -1.73,-1.08
Mechanical 31:
  lines w0.025: -1.45,-0.8 1.45,-0.8 1.45,0.8 -1.45,0.8 -1.45,-0.8 ; -1.138,-1.4 -1.138,-0.95 -0.763,-0.95 -0.763,-1.4 -1.138,-1.4 ; -1.138,0.95 -1.138,1.4 -0.763,1.4 -0.763,0.95 -1.138,0.95 ; -0.188,-1.4 -0.188,-0.95 0.188,-0.95 0.188,-1.4 -0.188,-1.4 ; -0.188,0.95 -0.188,1.4 0.188,1.4 0.188,0.95 -0.188,0.95 ; 0.763,-1.4 0.763,-0.95 1.138,-0.95 1.138,-1.4 0.763,-1.4 ; 0.763,0.95 0.763,1.4 1.138,1.4 1.138,0.95 0.763,0.95
3D body "SOP6P95_290X280X150L45X37.STEP": height 1.5, standoff 0, extent -1.525,-1.5 1.525,1.5

## L02615 [mm]
height 15
pads (4):
  round 3.5 / inner round 3.3 / far side round 3.5 hole 1.9: 1(0,-2.85) 2(0,2.85)
  round 3.1 hole 3 unplated: MH(-6.17,3.18) MH(6.17,3.18)
Top Overlay:
  lines w0.1: -7.7,2.2 -7.7,1.3 -4.175,1.3 ; -7.7,4.4 -7.7,5.3 -4.175,5.3 ; -1,6.5 -1,8 1,8 1,6.5 ; 4.175,1.3 7.7,1.3 7.7,2.2 ; 4.175,5.3 7.7,5.3 7.7,4.4 ; -4.175,-6 -4.175,6.5 4.175,6.5 4.175,-6 -4.175,-6
Top Assembly:
  lines w0.12: -4.175,1.3 -7.7,1.3 -7.7,5.3 -4.175,5.3 ; -1,6.5 -1,8 1,8 1,6.5 ; 4.175,1.3 7.7,1.3 7.7,5.3 4.175,5.3 ; -4.175,-6 4.175,-6 4.175,6.5 -4.175,6.5 -4.175,-6
  text ".Designator" at -4.6,-0.8 h2
Top Courtyard:
  circle w0.05: c0,0 r0.225
  lines w0.05: -0.3,0 0.3,0 ; 0,-0.3 0,0.3 ; -7.8,1.2 -4.275,1.2 -4.275,-6.1 4.275,-6.1 4.275,1.2 7.8,1.2 7.8,5.4 4.275,5.4 4.275,6.6 -4.275,6.6 -4.275,5.4 -7.8,5.4 -7.8,1.2
3D body "768290002.stp": height 14.8, standoff -3.78, extent -7.692,-6.017 7.7,8.017